# Altium footprint library arduino_uno_shield.PcbLib: 1 footprints
Each footprint in its own frame and in the unit in brackets; x right, y up, seen from the top. Pads: shape width x height; smd on the part's side, far side on the other; paste and mask are expansions set on the pad; w line width, h text height; cw(c..) or ccw(c..) is an arc to the next point about the centre after c.
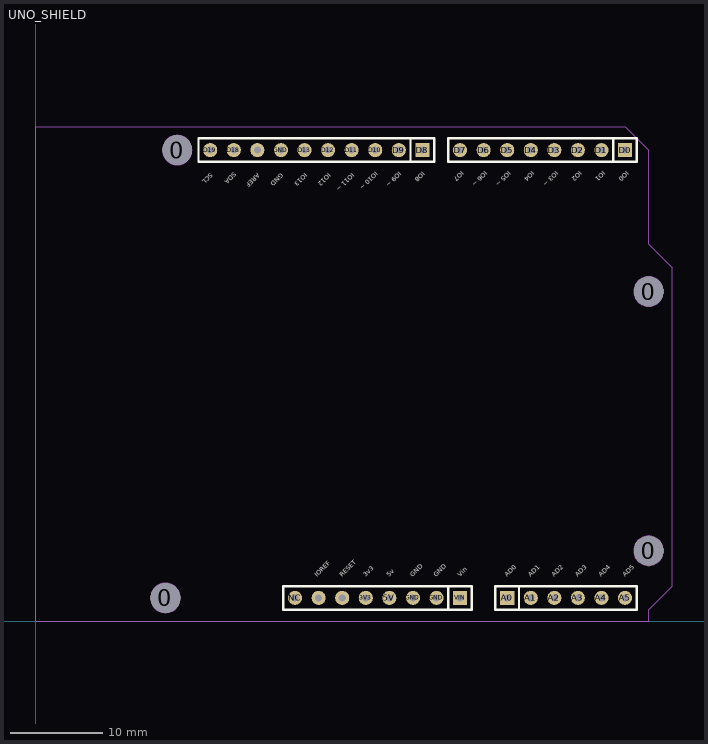
[diagram p0: the footprint, top view; thin cyan lines are the x and y axes]

## UNO_SHIELD [mil]
pads (36):
  round 125.98 hole 125.98: 0(550,100) 0(600,2000) 0(2600,300) 0(2600,1400)
  round 60 hole 30: 3V3(1400,100) 5V(1500,100) A1(2100,100) A2(2200,100) A3(2300,100) A4(2400,100) A5(2500,100) AREF(940,2000) D1(2400,2000) D2(2300,2000) D3(2200,2000) D4(2100,2000) D5(2000,2000) D6(1900,2000) D7(1800,2000) D9(1540,2000) D10(1440,2000) D11(1340,2000) D12(1240,2000) D13(1140,2000) D18(840,2000) D19(740,2000) GND(1040,2000) GND(1600,100) GND(1700,100) IOREF(1200,100) NC(1100,100) RESET(1300,100)
  rect 60x60 hole 30: A0(2000,100) D0(2500,2000) D8(1640,2000) VIN(1800,100)
Top Overlay:
  lines w10: 1750,50 1750,150 ; 2450,1950 2450,2050 ; 1590,1950 1690,1950 1690,2050 1590,2050 ; 1590,1950 1590,2050 ; 1590,1950 690,1950 690,2050 1590,2050 ; 2050,50 2550,50 2550,150 2050,150 ; 2050,50 2050,150 ; 2050,50 1950,50 1950,100 1950,150 2050,150 ; 1050,50 1850,50 1850,150 1050,150 1050,50 ; 1750,1950 2550,1950 2550,2050 1750,2050 1750,1950
  text "SCL" at 740,1902.93 h20
  text "SDA" at 840,1907.93 h20
  text "IOREF" at 1195,187.07 h20
  text "RESET" at 1300,187.07 h20
  text "3v3" at 1400,187.07 h20
  text "5v" at 1500,187.07 h20
  text "GND" at 1600,187.07 h20
  text "GND" at 1700,187.07 h20
  text "Vin" at 1800,187.07 h20
  text "AD0" at 2000,187.07 h20
  text "AD1" at 2100,187.07 h20
  text "AD2" at 2200,187.07 h20
  text "AD3" at 2300,187.07 h20
  text "AD4" at 2400,187.07 h20
  text "AD5" at 2500,187.07 h20
  text "IO0" at 2505,1912.93 h20
  text "IO1" at 2405,1912.93 h20
  text "IO2" at 2305,1912.93 h20
  text "IO3 ~" at 2205,1912.93 h20
  text "IO4" at 2105,1912.93 h20
  text "IO5 ~" at 2005,1912.93 h20
  text "IO6 ~" at 1905,1912.93 h20
  text "IO7" at 1805,1912.93 h20
  text "IO8" at 1640,1910 h20
  text "IO9 ~" at 1540,1910 h20
  text "IO10 ~" at 1440,1910 h20
  text "IO11 ~" at 1340,1902.93 h20
  text "IO12" at 1240,1902.93 h20
  text "IO13" at 1140,1902.93 h20
  text "GND" at 1040,1902.93 h20
  text "AREF" at 940,1902.93 h20
Mechanical 1:
  circle w5: c600,2000 r62.99
  circle w5: c2600,300 r62.99
  circle w5: c550,100 r62.99
  circle w5: c2600,1400 r62.99
  lines w5: 0,0 0,2100 2500,2100 2600,2000 2600,1600 2700,1500 2700,150 2600,50 2600,0 0,0
3D body "SIL_Socket08_.stp": height 334.65, standoff -584.65, extent 1050,49.99 1850,149.99
3D body "SIL_Socket08_.stp": height 334.65, standoff -584.65, extent 1750,1949.99 2550,2049.99
3D body "SIL_Socket10.stp": height 334.65, standoff -584.65, extent 690,1950 1690,2050
3D body "SIL_Socket06.stp": height 334.65, standoff -584.65, extent 1950.01,50.01 2550.01,150.01